# Altium footprint library RCA.PcbLib: 1 footprints
Each footprint in its own frame and in the unit in brackets; x right, y up, seen from the top. Pads: shape width x height; smd on the part's side, far side on the other; paste and mask are expansions set on the pad; w line width, h text height; cw(c..) or ccw(c..) is an arc to the next point about the centre after c.
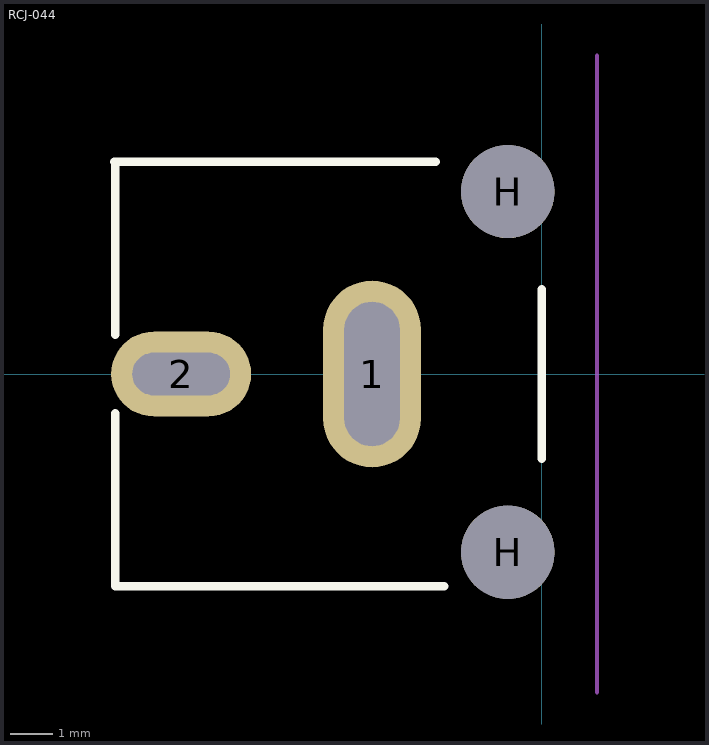
[diagram p0: the footprint, top view; thin cyan lines are the x and y axes]

## RCJ-044 [mm] "Two Conductor Jack (RCA), Right Angle, Thru-Hole, Body 10x10x13 mm (WxTxH)"
height 13
pads (4):
  oval 2.3x4.4 hole 1.3 slot 3.4 at 90 deg: 1(-4,0)
  oval 3.3x2 hole 1 slot 2.3 at 0 deg: 2(-8.5,0)
  round 2.2 hole 2.2 unplated: H(-0.8,-4.2) H(-0.8,4.3)
Top Overlay:
  lines w0.2: -10.075,5 -2.5,5 ; -10.057,-0.92 -10.057,-5 -2.3,-5 ; -10.057,0.92 -10.057,5 ; 0,-2 0,2
Mechanical 2:
  lines w0.1: 1.3,-7.5 1.3,7.5
3D body "CUI_RCJ-044.step": height 12, standoff -3.5, extent -10.05,-5 9.45,5